# Altium schematic symbol library 691321300004.SchLib: 1 symbol
Pins are listed as number, name and electrical type; pins without a type are passive.

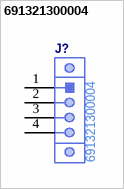
[diagram p0: symbol 691321300004]

## 691321300004
designator J?
PCB Terminal Block 1x4; Manufacturer: Wurth Electronics; Pitch: 3.81mm; Gender: Receptacle; __ORIG_LIFECYCLESTATEGUID__: 706004B5-C76E-482E-903B-BA0E4FAE086A; RoHS: Compliant; Orientation: Horizontal; Max Operating Temperature: 105*C; Mount: Trough Hole; Part Number: 691321300004; Series: WR-TBL 321; Number of Pins: 4; Number of Rows: 1; Manufacturer Part Number: 691321300004; Component Type: Screw Terminals
footprint 691321300004
pins: 1, 2, 3, 4